# Altium schematic symbol library D_GSOT05C-GS08_1.Schlib: 1 symbol
Pins are listed as number, name and electrical type; pins without a type are passive.

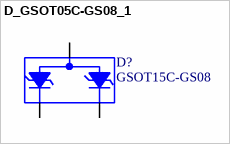
[diagram p0: symbol D_GSOT05C-GS08_1]

## D_GSOT05C-GS08_1
designator D?, comment GSOT15C-GS08
pins: A, C1, C2